# Altium schematic symbol library CKN10887CT.SchLib: 1 symbol
Pins are listed as number, name and electrical type; pins without a type are passive.

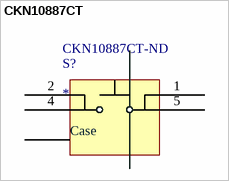
[diagram p0: symbol CKN10887CT]

## CKN10887CT
designator S?  Supplier Part Number 1: CKN10887CT-ND
Supplier 1: Digi-Key
footprint KMS221GLFS
pins: 1, 2, 4, 5
text: Case